# Altium schematic symbol library 687 1xx 182 122.SchLib: 13 symbols
Pins are listed as number, name and electrical type; pins without a type are passive.

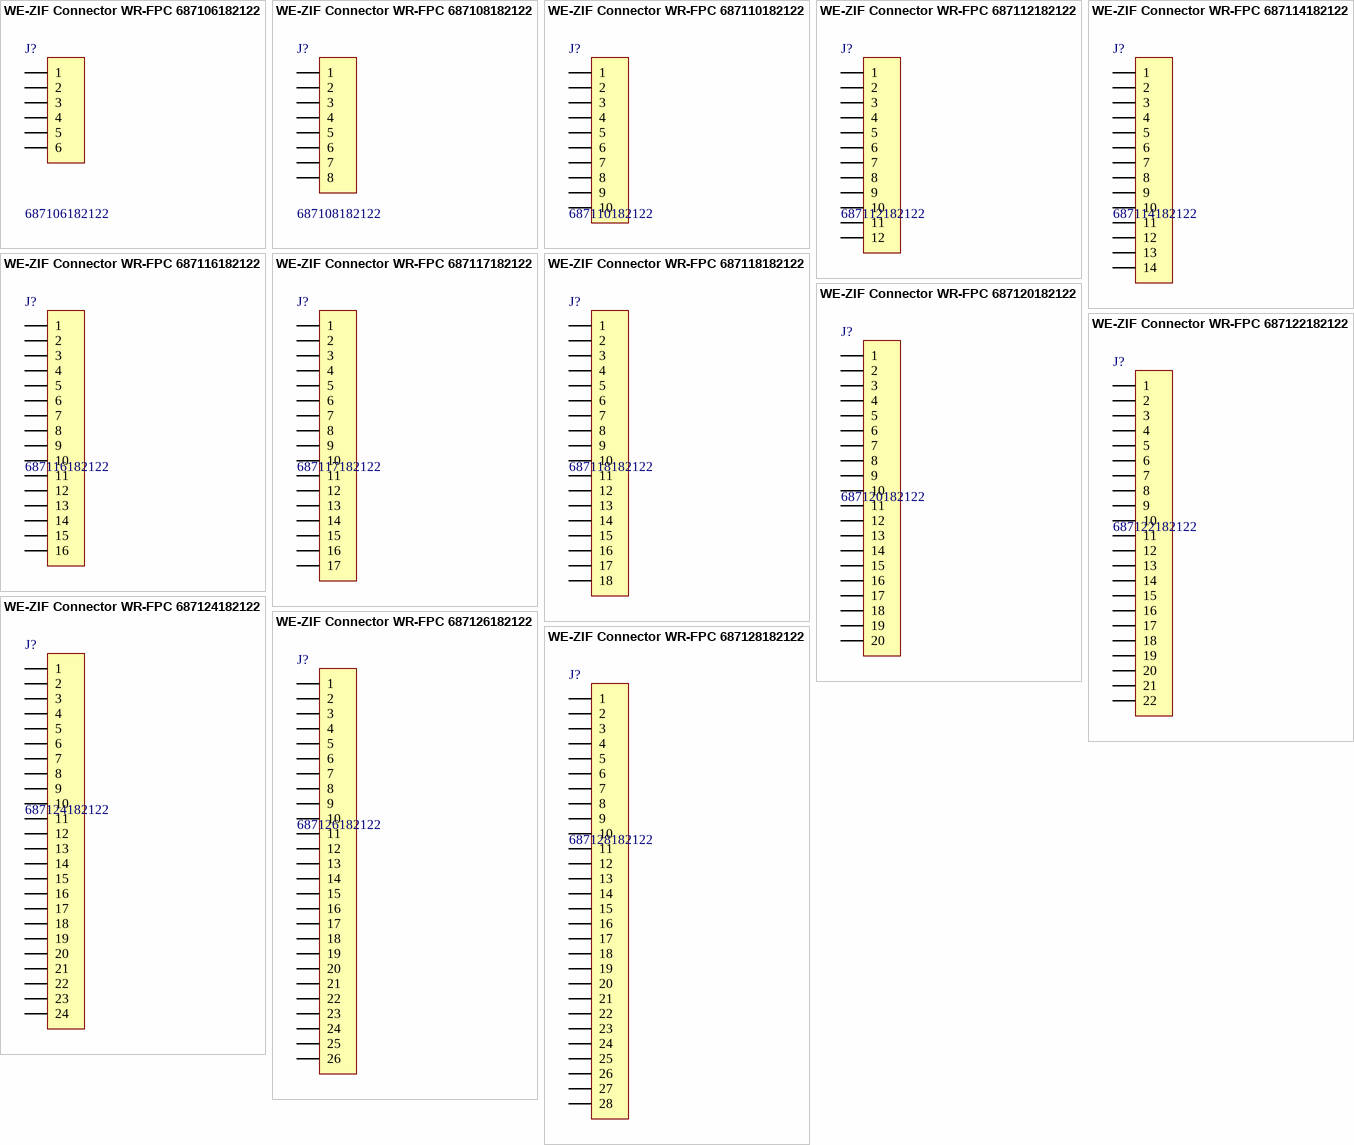
[diagram p0: symbols WE-ZIF Connector WR-FPC 687106182122 to WE-ZIF Connector WR-FPC 687128182122]

## WE-ZIF Connector WR-FPC 687106182122
designator J?, comment 687106182122
WR-FPC 0.5mm SMT ZIF Horizontal Dual Contact; Manufacturer: Wurth Elektronik; ComponentLink1 Description: Manufacturer; ComponentLink2 Description: Datasheet; NoPins: 6; Created Date: 10.Oct.2015; partNo: 687106182122; ComponentLink1URL: http://www.we-online.com; Created by: Baojun Chen
footprint 687106182122 (6 pins)
pins: 1, 2, 3, 4, 5, 6

## WE-ZIF Connector WR-FPC 687108182122
designator J?, comment 687108182122
WR-FPC 0.5mm SMT ZIF Horizontal Dual Contact; Manufacturer: Wurth Elektronik; ComponentLink1 Description: Manufacturer; ComponentLink2 Description: Datasheet; NoPins: 8; Created Date: 10.Oct.2015; partNo: 687108182122; ComponentLink1URL: http://www.we-online.com; Created by: Baojun Chen
footprint 687108182122 (8 pins)
pins: 1, 2, 3, 4, 5, 6, 7, 8

## WE-ZIF Connector WR-FPC 687110182122
designator J?, comment 687110182122
WR-FPC 0.5mm SMT ZIF Horizontal Dual Contact; Manufacturer: Wurth Elektronik; ComponentLink1 Description: Manufacturer; ComponentLink2 Description: Datasheet; NoPins: 10; Created Date: 10.Oct.2015; partNo: 687110182122; ComponentLink1URL: http://www.we-online.com; Created by: Baojun Chen
footprint 687110182122 (10 pins)
pins: 1, 2, 3, 4, 5, 6, 7, 8, 9, 10

## WE-ZIF Connector WR-FPC 687112182122
designator J?, comment 687112182122
WR-FPC 0.5mm SMT ZIF Horizontal Dual Contact; Manufacturer: Wurth Elektronik; ComponentLink1 Description: Manufacturer; ComponentLink2 Description: Datasheet; NoPins: 12; Created Date: 10.Oct.2015; partNo: 687112182122; ComponentLink1URL: http://www.we-online.com; Created by: Baojun Chen
footprint 687112182122 (12 pins)
pins: 1, 2, 3, 4, 5, 6, 7, 8, 9, 10, 11, 12

## WE-ZIF Connector WR-FPC 687114182122
designator J?, comment 687114182122
WR-FPC 0.5mm SMT ZIF Horizontal Dual Contact; Manufacturer: Wurth Elektronik; ComponentLink1 Description: Manufacturer; ComponentLink2 Description: Datasheet; NoPins: 14; Created Date: 10.Oct.2015; partNo: 687114182122; ComponentLink1URL: http://www.we-online.com; Created by: Baojun Chen
footprint 687114182122 (14 pins)
pins: 1, 2, 3, 4, 5, 6, 7, 8, 9, 10, 11, 12, 13, 14

## WE-ZIF Connector WR-FPC 687116182122
designator J?, comment 687116182122
WR-FPC 0.5mm SMT ZIF Horizontal Dual Contact; Manufacturer: Wurth Elektronik; ComponentLink1 Description: Manufacturer; ComponentLink2 Description: Datasheet; NoPins: 16; Created Date: 10.Oct.2015; partNo: 687116182122; ComponentLink1URL: http://www.we-online.com; Created by: Baojun Chen
footprint 687116182122 (16 pins)
pins: 1, 2, 3, 4, 5, 6, 7, 8, 9, 10, 11, 12, 13, 14, 15, 16

## WE-ZIF Connector WR-FPC 687117182122
designator J?, comment 687117182122
WR-FPC 0.5mm SMT ZIF Horizontal Dual Contact; Manufacturer: Wurth Elektronik; ComponentLink1 Description: Manufacturer; ComponentLink2 Description: Datasheet; NoPins: 17; Created Date: 10.Oct.2015; partNo: 687117182122; ComponentLink1URL: http://www.we-online.com; Created by: Baojun Chen
footprint 687117182122 (17 pins)
pins: 1, 2, 3, 4, 5, 6, 7, 8, 9, 10, 11, 12, 13, 14, 15, 16, 17

## WE-ZIF Connector WR-FPC 687118182122
designator J?, comment 687118182122
WR-FPC 0.5mm SMT ZIF Horizontal Dual Contact; Manufacturer: Wurth Elektronik; ComponentLink1 Description: Manufacturer; ComponentLink2 Description: Datasheet; NoPins: 18; Created Date: 10.Oct.2015; partNo: 687118182122; ComponentLink1URL: http://www.we-online.com; Created by: Baojun Chen
footprint 687118182122 (18 pins)
pins: 1, 2, 3, 4, 5, 6, 7, 8, 9, 10, 11, 12, 13, 14, 15, 16, 17, 18

## WE-ZIF Connector WR-FPC 687120182122
designator J?, comment 687120182122
WR-FPC 0.5mm SMT ZIF Horizontal Dual Contact; Manufacturer: Wurth Elektronik; ComponentLink1 Description: Manufacturer; ComponentLink2 Description: Datasheet; NoPins: 20; Created Date: 10.Oct.2015; partNo: 687120182122; ComponentLink1URL: http://www.we-online.com; Created by: Baojun Chen
footprint 687120182122 (20 pins)
pins: 1, 2, 3, 4, 5, 6, 7, 8, 9, 10, 11, 12, 13, 14, 15, 16, 17, 18, 19, 20

## WE-ZIF Connector WR-FPC 687122182122
designator J?, comment 687122182122
WR-FPC 0.5mm SMT ZIF Horizontal Dual Contact; Manufacturer: Wurth Elektronik; ComponentLink1 Description: Manufacturer; ComponentLink2 Description: Datasheet; NoPins: 22; Created Date: 10.Oct.2015; partNo: 687122182122; ComponentLink1URL: http://www.we-online.com; Created by: Baojun Chen
footprint 687122182122 (22 pins)
pins: 1, 2, 3, 4, 5, 6, 7, 8, 9, 10, 11, 12, 13, 14, 15, 16, 17, 18, 19, 20, 21, 22

## WE-ZIF Connector WR-FPC 687124182122
designator J?, comment 687124182122
WR-FPC 0.5mm SMT ZIF Horizontal Dual Contact; Manufacturer: Wurth Elektronik; ComponentLink1 Description: Manufacturer; ComponentLink2 Description: Datasheet; NoPins: 24; Created Date: 10.Oct.2015; partNo: 687124182122; ComponentLink1URL: http://www.we-online.com; Created by: Baojun Chen
footprint 687124182122 (24 pins)
pins: 1, 2, 3, 4, 5, 6, 7, 8, 9, 10, 11, 12, 13, 14, 15, 16, 17, 18, 19, 20, 21, 22, 23, 24

## WE-ZIF Connector WR-FPC 687126182122
designator J?, comment 687126182122
WR-FPC 0.5mm SMT ZIF Horizontal Dual Contact; Manufacturer: Wurth Elektronik; ComponentLink1 Description: Manufacturer; ComponentLink2 Description: Datasheet; NoPins: 26; Created Date: 10.Oct.2015; partNo: 687126182122; ComponentLink1URL: http://www.we-online.com; Created by: Baojun Chen
footprint 687126182122 (26 pins)
pins: 1, 2, 3, 4, 5, 6, 7, 8, 9, 10, 11, 12, 13, 14, 15, 16, 17, 18, 19, 20, 21, 22, 23, 24, 25, 26

## WE-ZIF Connector WR-FPC 687128182122
designator J?, comment 687128182122
WR-FPC 0.5mm SMT ZIF Horizontal Dual Contact; Manufacturer: Wurth Elektronik; ComponentLink1 Description: Manufacturer; ComponentLink2 Description: Datasheet; NoPins: 28; Created Date: 10.Oct.2015; partNo: 687128182122; ComponentLink1URL: http://www.we-online.com; Created by: Baojun Chen
footprint 687128182122 (28 pins)
pins: 1, 2, 3, 4, 5, 6, 7, 8, 9, 10, 11, 12, 13, 14, 15, 16, 17, 18, 19, 20, 21, 22, 23, 24, 25, 26, 27, 28